# Altium schematic symbol library Component.SchLib: 69 symbols
Pins are listed as number, name and electrical type; pins without a type are passive.

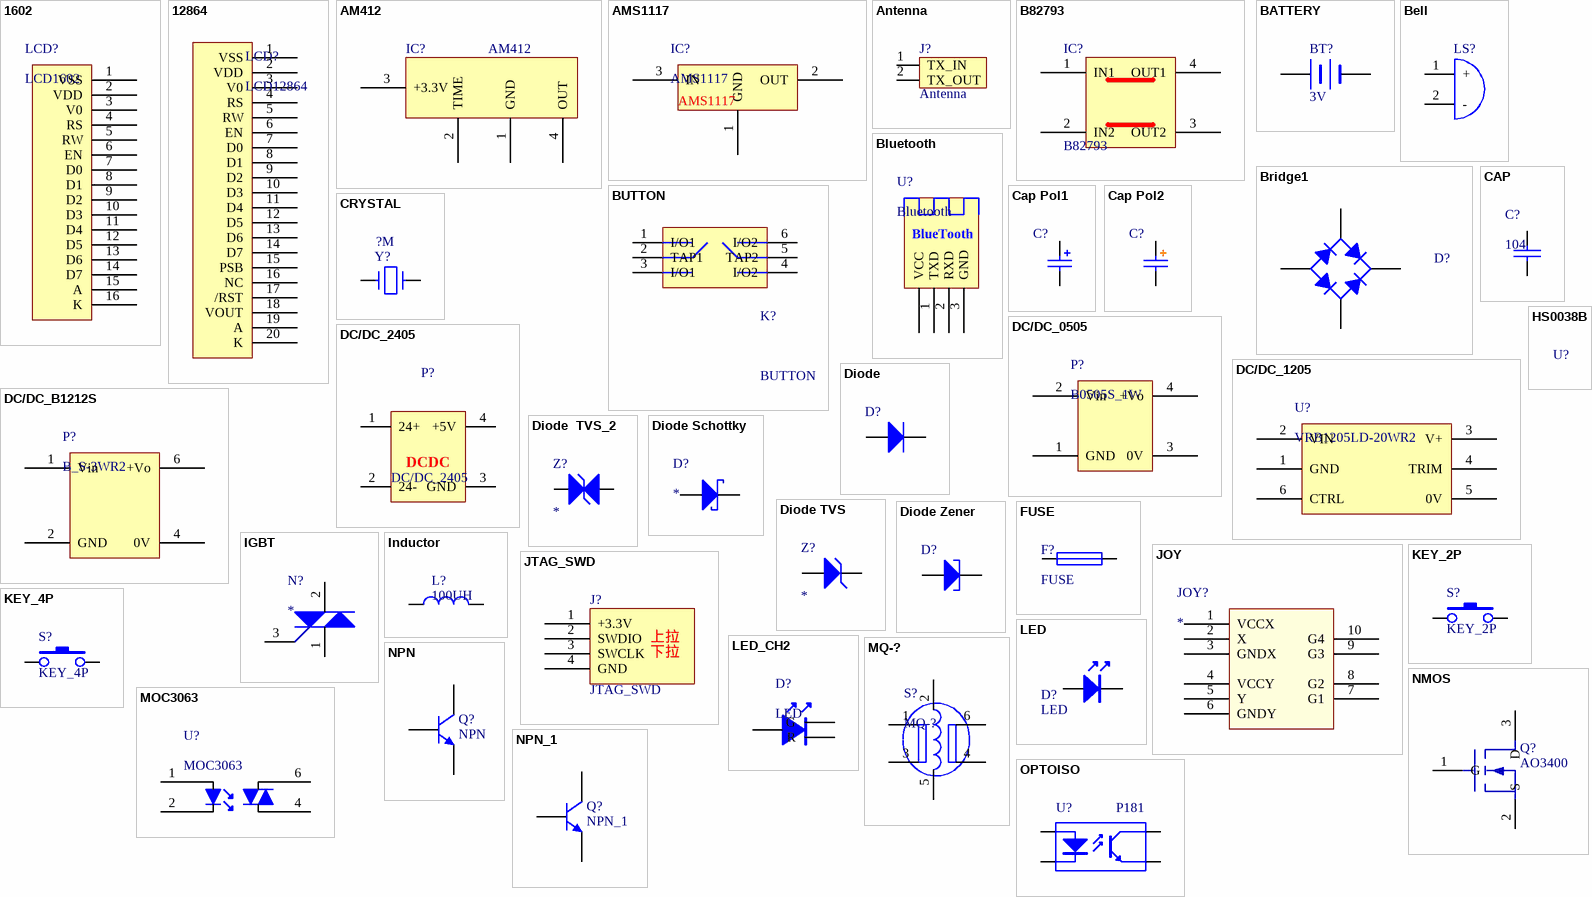
[diagram p0: symbols 1602 to OPTOISO]

## 1602
designator LCD?, comment LCD1602
液晶
pins: 1 VSS, 2 VDD, 3 V0, 4 RS, 5 RW, 6 EN, 7 D0, 8 D1, 9 D2, 10 D3, 11 D4, 12 D5, 13 D6, 14 D7, 15 A, 16 K

## 12864
designator LCD?, comment LCD12864
液晶
footprint LCD12864
pins: 1 VSS, 2 VDD, 3 V0, 4 RS, 5 RW, 6 EN, 7 D0, 8 D1, 9 D2, 10 D3, 11 D4, 12 D5, 13 D6, 14 D7, 15 PSB, 16 NC, 17 /RST, 18 VOUT, 19 A, 20 K

## AM412
designator IC?
人体红外传感器
footprint AM412
pins: 1 GND, 2 TIME, 3 +3.3V, 4 OUT

## AMS1117
designator IC?
footprint SOT-223-4 (SOT223, 4-Leads, Body 6.50x7.00mm (avg), Pitch 2.30mm, IPC Medium Density)
pins: 1 GND, 2 OUT, 3 IN

## Antenna
designator J?
GSM天线
footprint SMA-2 (Footprint not found)
pins: 1 TX_IN, 2 TX_OUT
2 alternate drawings of the same symbol

## B82793
designator IC?
贴片电感
footprint B82793
pins: 1 IN1, 2 IN2, 3 OUT2, 4 OUT1

## BATTERY
designator BT?, comment 3V
Battery
footprint BATTERY_1220
footprint CR2032 (pin 20mm)
footprint CR1220 (pin 12mm)
pins: 1 +, 2 -

## Bell
designator LS?
Electrical Bell; Published: 24-Mar-1999; LatestRevisionDate: 17-Jul-2002; LatestRevisionNote: Re-released for DXP Platform.; PackageReference: PIN2; Publisher: Altium Limited
footprint BE7.6-12
pins: 1 +, 2 -

## Bluetooth
designator U?
蓝牙模块
pins: 0 VCC, 1 TXD, 2 RXD, 3 GND
text: BlueTooth

## Bridge1
designator D?
Full Wave Diode Bridge; Published: 8-Jun-2000; LatestRevisionDate: 29-May-2009; LatestRevisionNote: Sch pins A & K swapped.; DatasheetVersion: E2732B; PackageReference: D-38; Publisher: Altium Limited; PackageDescription: Bridge Rectifier; 4 Terminals; Body 9.4 x 9.4 mm (typ); Pitch 5.08 mm
footprint D-38 (Footprint not found)
simulation model BRIDGE (Spice Subcircuit)
pins: 1 K, 2 C, 3 A, 4 C

## BUTTON
designator K?
自锁按键
footprint BTN8.5*8.5
pins: 1 I/O1, 2 TAP1, 3 I/O1, 4 I/O2, 5 TAP2, 6 I/O2
2 alternate drawings of the same symbol

## CAP
designator C?, comment 104
电容
footprint 0805
footprint C0603
footprint C0805
footprint C1206
pins: 1, 2

## Cap Pol1
designator C?
电解电容
footprint RB2.54-8
footprint CAP_SMD_8*10 (贴片电解电容)
footprint CAP_SMD_10*10 (贴片电解电容)
footprint CAP_SMD_6*7 (贴片电解电容)
footprint RB2.54-5
footprint RB3.5-7
footprint RB5.08-10
footprint CAP_SMD_4*5 (贴片电解电容)
pins: 1, 2
1 alternate drawing of the same symbol

## Cap Pol2
designator C?
钽电容
footprint CASE-A_3216
footprint CASE-B_3528
footprint CASE-C_6032
footprint CASE-D_7343
pins: 1, 2
1 alternate drawing of the same symbol

## CRYSTAL
designator Y?, comment ?M
晶振
footprint CRYSTAL_32.768
footprint CRYSTAL_DIP
footprint CRYSTAL_SMD
footprint CRYSTAL_32.768_2*6 (φ:2mm  height:6mm)
footprint CRYSTAL_32.768_3*8 (φ:3mm  height:8mm)
pins: 1, 2

## DC/DC_0505
designator P?, comment B0505S_1W
MORNSUN隔离电源
footprint DCDC (MORNSUN 隔离电源)
pins: 1 GND, 2 Vin, 3 0V, 4 +Vo

## DC/DC_1205
designator U?, comment VRB1205LD-20WR2
MORNSUN隔离电源
footprint VRB1205LD-20WR2
pins: 1 GND, 2 VIN, 3 V+, 4 TRIM, 5 0V, 6 CTRL

## DC/DC_2405
designator P?
隔离电源
footprint DCDC2405
pins: 1 24+, 2 24-, 3 GND, 4 +5V
text: DCDC

## DC/DC_B1212S
designator P?, comment B_S-3WR2
MORNSUN隔离电源
footprint B_S-3WR2
pins: 1 Vin, 2 GND, 4 0V, 6 +Vo

## Diode
designator D?
二极管; Published: 8-Jun-2000; LatestRevisionDate: 17-Jul-2002; LatestRevisionNote: Re-released for DXP Platform.; PackageVersion: Sep-1996; PackageReference: SMC; Publisher: Altium Limited; PackageDescription: DO-214-AB/SMC; 2 C-Bend Leads; Body 7.9 x 5.9 mm, inc. leads (LxW); Code_JEDEC: DO-214-AB
footprint SMA
footprint DO-41 (Diode, Axial; Body 5.2 x 2.7 mm (LxDia. max), Lead Dia. 0.86 mm (max))
pins: 1 A, 2 K

## Diode  TVS_2
designator Z?
双向TVS
footprint SMA
footprint SMC (DO-214-AB/SMC; 2 C-Bend Leads; Body 7.9 x 5.9 mm, inc. leads (LxW))
footprint SMB
pins: 1, 2
2 alternate drawings of the same symbol

## Diode Schottky
designator D?
肖特基二极管
footprint SOD-123
pins: 1 A, 2 K

## Diode TVS
designator Z?
TVS
footprint SMB
footprint SMA
footprint SMC (DO-214-AB/SMC; 2 C-Bend Leads; Body 7.9 x 5.9 mm, inc. leads (LxW))
pins: 1, 2
2 alternate drawings of the same symbol

## Diode Zener
designator D?
稳压二极管; Published: 8-Jun-2000; LatestRevisionDate: 17-Jul-2002; LatestRevisionNote: Re-released for DXP Platform.; PackageReference: DIODE-0.7; Publisher: Altium Limited; PackageDescription: Diode, Thru-Hole; 2 Leads; 0.7 in Pin Spacing
footprint LL-34
pins: 1 A, 2 K

## FUSE
designator F?
保险丝
footprint FUSE (5X20)
footprint FUSE_2 (body:25x10mm,pin 23mm)
pins: 1, 2

## HS0038B
designator U?  (value not drawn)
红外接收头

## IGBT
designator N?
BTA16
footprint TO-220AB (TO, Thru-Hole, Vertical, Heatsink Mounted; 3 In-Line Leads; Pitch 2.54 mm)
pins: 1, 2, 3

## Inductor
designator L?, comment 100UH
电感
footprint L0805
footprint L1206
footprint DG_6*10
footprint TPDG_12*12
pins: 1, 2

## JOY
designator JOY?
pins: 1 VCCX, 2 X, 3 GNDX, 4 VCCY, 5 Y, 6 GNDY, 7 G1, 8 G2, 9 G3, 10 G4

## JTAG_SWD
designator J?
白色座子
footprint XH2.54-4P (Footprint not found)
pins: 1 +3.3V, 2 SWDIO, 3 SWCLK, 4 GND
text: 上拉; 下拉

## KEY_2P
designator S?
轻触按键2P
footprint KEY2 (body:3.6x8mm,2PIN,8.2MM)
pins: 1, 2

## KEY_4P
designator S?
轻触按键4P
footprint KEY_6*6
pins: 1, 2

## LED
designator D?
footprint LED_0805
footprint LED_3MM
footprint LED_5MM
footprint LED_1206
footprint LED_0603
pins: 1, 2

## LED_CH2
designator D?, comment LED
双色LED
footprint LED_CH2
pins: 1 G, 2 +, 3 R

## MOC3063
designator U?
光耦
footprint SOP6L_75 (Footprint not found)
pins: 1 ANODE, 2 CATHODE, 4 MAIN TERM, 6 MAIN TERM

## MQ-?
designator S?
气体传感器
pins: 1, 2, 3, 4, 5, 6

## NMOS
designator Q?, comment AO3400
NMOS
footprint SOT-23-3L
pins: 1 G, 2 S, 3 D

## NPN
designator Q?
TO-92; Published: 8-Jun-2000; LatestRevisionDate: 17-Jul-2002; LatestRevisionNote: Re-released for DXP Platform.; PackageReference: TO-226-AA; Publisher: Altium Limited; PackageDescription: TO, Flat Index; 3 In-Line, Axial Leads; Body Dia. 4.8mm; Leads 0.55 x 0.51 mm (max); Code_JEDEC: TO-226-AA
footprint TO-92
pins: 1 E, 2 B, 3 C

## NPN_1
designator Q?
SOT-23-3L; Published: 8-Jun-2000; LatestRevisionDate: 17-Jul-2002; LatestRevisionNote: Re-released for DXP Platform.; PackageReference: TO-226-AA; Publisher: Altium Limited; PackageDescription: TO, Flat Index; 3 In-Line, Axial Leads; Body Dia. 4.8mm; Leads 0.55 x 0.51 mm (max); Code_JEDEC: TO-226-AA
footprint SOT-23-3L
pins: 1 B, 2 E, 3 C

## OPTOISO
designator U?, comment P181
光耦
footprint DIP4 (Footprint not found)
footprint SOP4L_75 (SOP, 4-Leads, Body 4.3x7.5mm (max), Pitch 2.54mm, IPC Medium Density)
footprint SOP4_44 (SOP, 4-Leads, Body 2.7x4.4mm (max), Pitch 1.27mm, IPC Medium Density)
pins: 1 A, 2 K, 3 E, 4 C

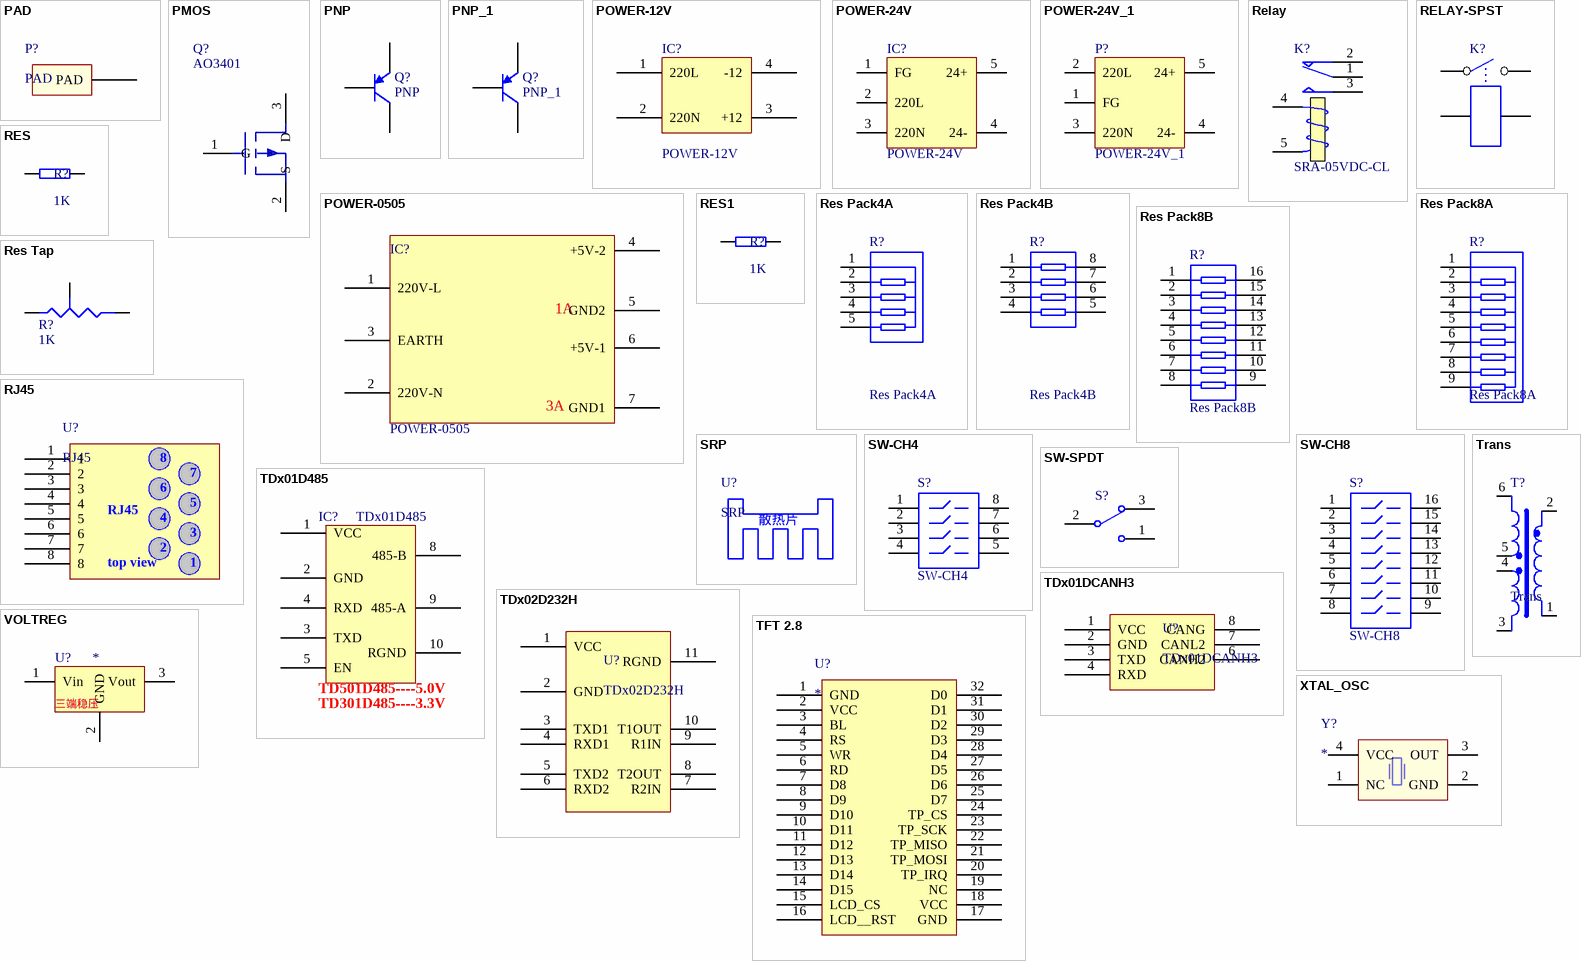
[diagram p1: symbols PAD to XTAL_OSC]

## PAD
designator P?
焊盘
footprint PAD1 (2.5mm x 1mm)
footprint PAD2 (1.5mm x 1mm)
pins: PAD (oe)

## PMOS
designator Q?, comment AO3401
PMOS
footprint SOT-23-3L
pins: 1 G, 2 S, 3 D

## PNP
designator Q?
TO-92; Published: 8-Jun-2000; LatestRevisionDate: 29-May-2009; LatestRevisionNote: IPC-7351 Footprint Added.; PackageVersion: Aug-1999; PackageReference: SOT-23B; Publisher: Altium Limited; PackageDescription: 3-Pin SOT-23 Package 0.95 mm Pitch, 2.4 mm Lead Span
footprint TO-92
pins: 1 E, 2 B, 3 C

## PNP_1
designator Q?
SOT-23-3L; Published: 8-Jun-2000; LatestRevisionDate: 29-May-2009; LatestRevisionNote: IPC-7351 Footprint Added.; PackageVersion: Aug-1999; PackageReference: SOT-23B; Publisher: Altium Limited; PackageDescription: 3-Pin SOT-23 Package 0.95 mm Pitch, 2.4 mm Lead Span
footprint SOT-23-3L
pins: 1 B, 2 E, 3 C

## POWER-12V
designator IC?
开关电源12V
footprint POWER_12V_2 (XK-1205DC)
footprint POWER_12V (XK-1208)
pins: 1 220L, 2 220N, 3 +12, 4 -12

## POWER-24V
designator IC?
德创电源24V
footprint POWER-24V (Footprint not found)
pins: 1 FG, 2 220L, 3 220N, 4 24-, 5 24+

## POWER-24V_1
designator P?
德创电源24V
footprint POWER-24V (Footprint not found)
pins: 1 FG, 2 220L, 3 220N, 4 24-, 5 24+

## POWER-0505
designator IC?
鸿海电源5V5V
footprint POWER-0505 (Footprint not found)
pins: 1 220V-L, 2 220V-N, 3 EARTH, 4 +5V-2, 5 GND2, 6 +5V-1, 7 GND1
text: 1A; 3A

## Relay
designator K?, comment SRA-05VDC-CL
Published: 8-Jun-2000; LatestRevisionDate: 17-Jul-2002; LatestRevisionNote: Re-released for DXP Platform.; PackageReference: MODULE5B; Publisher: Altium Limited
footprint SRA-05VDC-CL (body:15.5mm X 12.3mm X 14mm pin 5)
pins: 1 COM, 2 NC, 3 NO, 4 T1, 5 T2

## RELAY-SPST
designator K?
继电器
footprint HF161F-W
footprint JDQ_5
footprint JZC-11F
footprint HF32F-G
pins: 1, 2, 3, 4

## RES
designator R?, comment 1K
电阻
footprint R0805
footprint 1210
footprint R0603
footprint 2512 (Footprint not found)
pins: 1, 2

## RES1
designator R?, comment 1K
电阻
footprint AXIAL-0.4 (Axial Device, Thru-Hole; 2 Leads; 0.4 in Pin Spacing)
footprint AXIAL-0.5 (Axial Device, Thru-Hole; 2 Leads; 0.5 in Pin Spacing)
footprint AXIAL-0.6 (Axial Device, Thru-Hole; 2 Leads; 0.6 in Pin Spacing)
footprint AXIAL-0.7 (Axial Device, Thru-Hole; 2 Leads; 0.7 in Pin Spacing)
footprint AXIAL-0.8 (Axial Device, Thru-Hole; 2 Leads; 0.8 in Pin Spacing)
footprint AXIAL-0.9 (Axial Device, Thru-Hole; 2 Leads; 0.9 in Pin Spacing)
footprint AXIAL-1.0 (Axial Device, Thru-Hole; 2 Leads; 1.0 in Pin Spacing)
footprint AXIAL-0.3 (Axial Device, Thru-Hole; 2 Leads; 0.3 in Pin Spacing)
pins: 1, 2

## Res Pack4A
designator R?
排阻; Published: 24-Mar-1999; LatestRevisionDate: 29-May-2009; LatestRevisionNote: IPC-7351 Footprint Added.; PackageVersion: Oct-2003; PackageReference: SSOP16; Publisher: Altium Limited; PackageDescription: 16-Pin Plastic Small Outline Package 0.65 mm Pitch; Code_JEDEC: MO-150-AC; Code_IPC: SOP65P780-16
footprint HDR1X5 (Footprint not found)
pins: 1, 2, 3, 4, 5

## Res Pack4B
designator R?
排阻; Value: 1K; Published: 24-Mar-1999; LatestRevisionDate: 29-May-2009; LatestRevisionNote: IPC-7351 Footprint Added.; PackageVersion: Oct-2003; PackageReference: SSOP16; Publisher: Altium Limited; PackageDescription: 16-Pin Plastic Small Outline Package 0.65 mm Pitch; Code_JEDEC: MO-150-AC; Code_IPC: SOP65P780-16
footprint 0402X4
footprint 0603X4
pins: 1, 2, 3, 4, 5, 6, 7, 8

## Res Pack8A
designator R?
排阻; Published: 24-Mar-1999; LatestRevisionDate: 29-May-2009; LatestRevisionNote: IPC-7351 Footprint Added.; PackageVersion: Oct-2003; PackageReference: SSOP16; Publisher: Altium Limited; PackageDescription: 16-Pin Plastic Small Outline Package 0.65 mm Pitch; Code_JEDEC: MO-150-AC; Code_IPC: SOP65P780-16
footprint HDR1X9 (Footprint not found)
pins: 1, 2, 3, 4, 5, 6, 7, 8, 9

## Res Pack8B
designator R?
排阻
pins: 1, 2, 3, 4, 5, 6, 7, 8, 9, 10, 11, 12, 13, 14, 15, 16

## Res Tap
designator R?, comment 1K
可调电阻; Sim Note: Enter the Resistance value and the set point into parameter fields.; Set Position: 0.5; Published: 24-Mar-1999; LatestRevisionDate: 17-Jul-2002; LatestRevisionNote: Re-released for DXP Platform.; PackageReference: VR3; Publisher: Altium Limited; PackageDescription: Variable Resistor, Thru-Hole; 3 Leads; Value: 1K
footprint 3296W
pins: 1 A, 2 TAP, 3 B

## RJ45
designator U?
网口
footprint RJ45
pins: 1, 2, 3, 4, 5, 6, 7, 8
text: top view

## SRP
designator U?
散热片
footprint SRP1
footprint SRP2

## SW-CH4
designator S?
拨码开关CH4; Published: 24-Mar-1999; LatestRevisionDate: 17-Jul-2002; LatestRevisionNote: Re-released for DXP Platform.; PackageReference: DIP-8; Publisher: Altium Limited
footprint CH4_SWITCH_SHU
pins: 1, 2, 3, 4, 5, 6, 7, 8

## SW-CH8
designator S?
拨码开关CH8; Published: 24-Mar-1999; LatestRevisionDate: 17-Dec-2003; LatestRevisionNote: PCB Footprint replaced.; PackageReference: DIP-16-KEY; Publisher: Altium Limited; PackageDescription: DIP; 16 Leads; Row Spacing 7.62 mm; Pitch 2.54 mm; ComponentLink1Description: Manufacturer Link; ComponentLink1URL: http://www.oupiin.com/prodindx.html#Headers
footprint CH8_SWITCH_SHU
pins: 1, 2, 3, 4, 5, 6, 7, 8, 9, 10, 11, 12, 13, 14, 15, 16

## SW-SPDT
designator S?  (value not drawn)
拨动开关; Published: 24-Mar-1999; LatestRevisionDate: 17-Dec-2003; LatestRevisionNote: Schematic revised, PCB Footprint replaced.; DatasheetVersion: 05-Dec-2000; PackageReference: TL36WW15050; Publisher: Altium Limited; PackageDescription: Switch; 4 Leads; ComponentLink1Description: Manufacturer Link; ComponentLink1URL: http://www.apem.com
footprint TL36WW15050 (Switch; 4 Leads)
pins: 1, 2, 3

## TDx01D485
designator IC?
金升阳485模块
footprint TDx01D485
pins: 1 VCC, 2 GND, 3 TXD, 4 RXD, 5 EN, 8 485-B, 9 485-A, 10 RGND
text: TD501D485----5.0V; TD301D485----3.3V

## TDx01DCANH3
designator U?
金升阳CAN模块
footprint TDx01DCANH3
pins: 1 VCC, 2 GND, 3 TXD, 4 RXD, 6 CANH2, 7 CANL2, 8 CANG

## TDx02D232H
designator U?
金升阳232模块
footprint TDx02D232H
pins: 1 VCC (power), 2 GND (power), 3 TXD1, 4 RXD1, 5 TXD2, 6 RXD2, 7 R2IN, 8 T2OUT, 9 R1IN, 10 T1OUT, 11 RGND

## TFT 2.8
designator U?
TFT 2.8彩屏
footprint TFT 2.8
pins: 1 GND, 2 VCC, 3 BL, 4 RS, 5 WR, 6 RD, 7 D8, 8 D9, 9 D10, 10 D11, 11 D12, 12 D13, 13 D14, 14 D15, 15 LCD_CS, 16 LCD__RST, 17 GND, 18 VCC, 19 NC, 20 TP_IRQ, 21 TP_MOSI, 22 TP_MISO, 23 TP_SCK, 24 TP_CS, 25 D7, 26 D6, 27 D5, 28 D4, 29 D3, 30 D2, 31 D1, 32 D0

## Trans
designator T?
变压器; Published: 8-Jun-2000; LatestRevisionDate: 17-Jul-2002; LatestRevisionNote: Re-released for DXP Platform.; PackageReference: TRF_5; Publisher: Altium Limited; PackageDescription: Transformer; 5 Leads
footprint TRF_5 (Transformer; 5 Leads)
simulation model TRANSFORMER (Transformer)
pins: 1, 2, 3, 4, 5, 6

## VOLTREG
designator U?
三端稳压
footprint TO263
pins: 1 Vin, 2 GND, 3 Vout

## XTAL_OSC
designator Y?
有源晶振
footprint SMD4_7X5
pins: 1 NC, 2 GND, 3 OUT, 4 VCC